# Altium footprint library Fan_Module_PcbLib.PcbLib: 14 footprints
Each footprint in its own frame and in the unit in brackets; x right, y up, seen from the top. Pads: shape width x height; smd on the part's side, far side on the other; paste and mask are expansions set on the pad; w line width, h text height; cw(c..) or ccw(c..) is an arc to the next point about the centre after c.
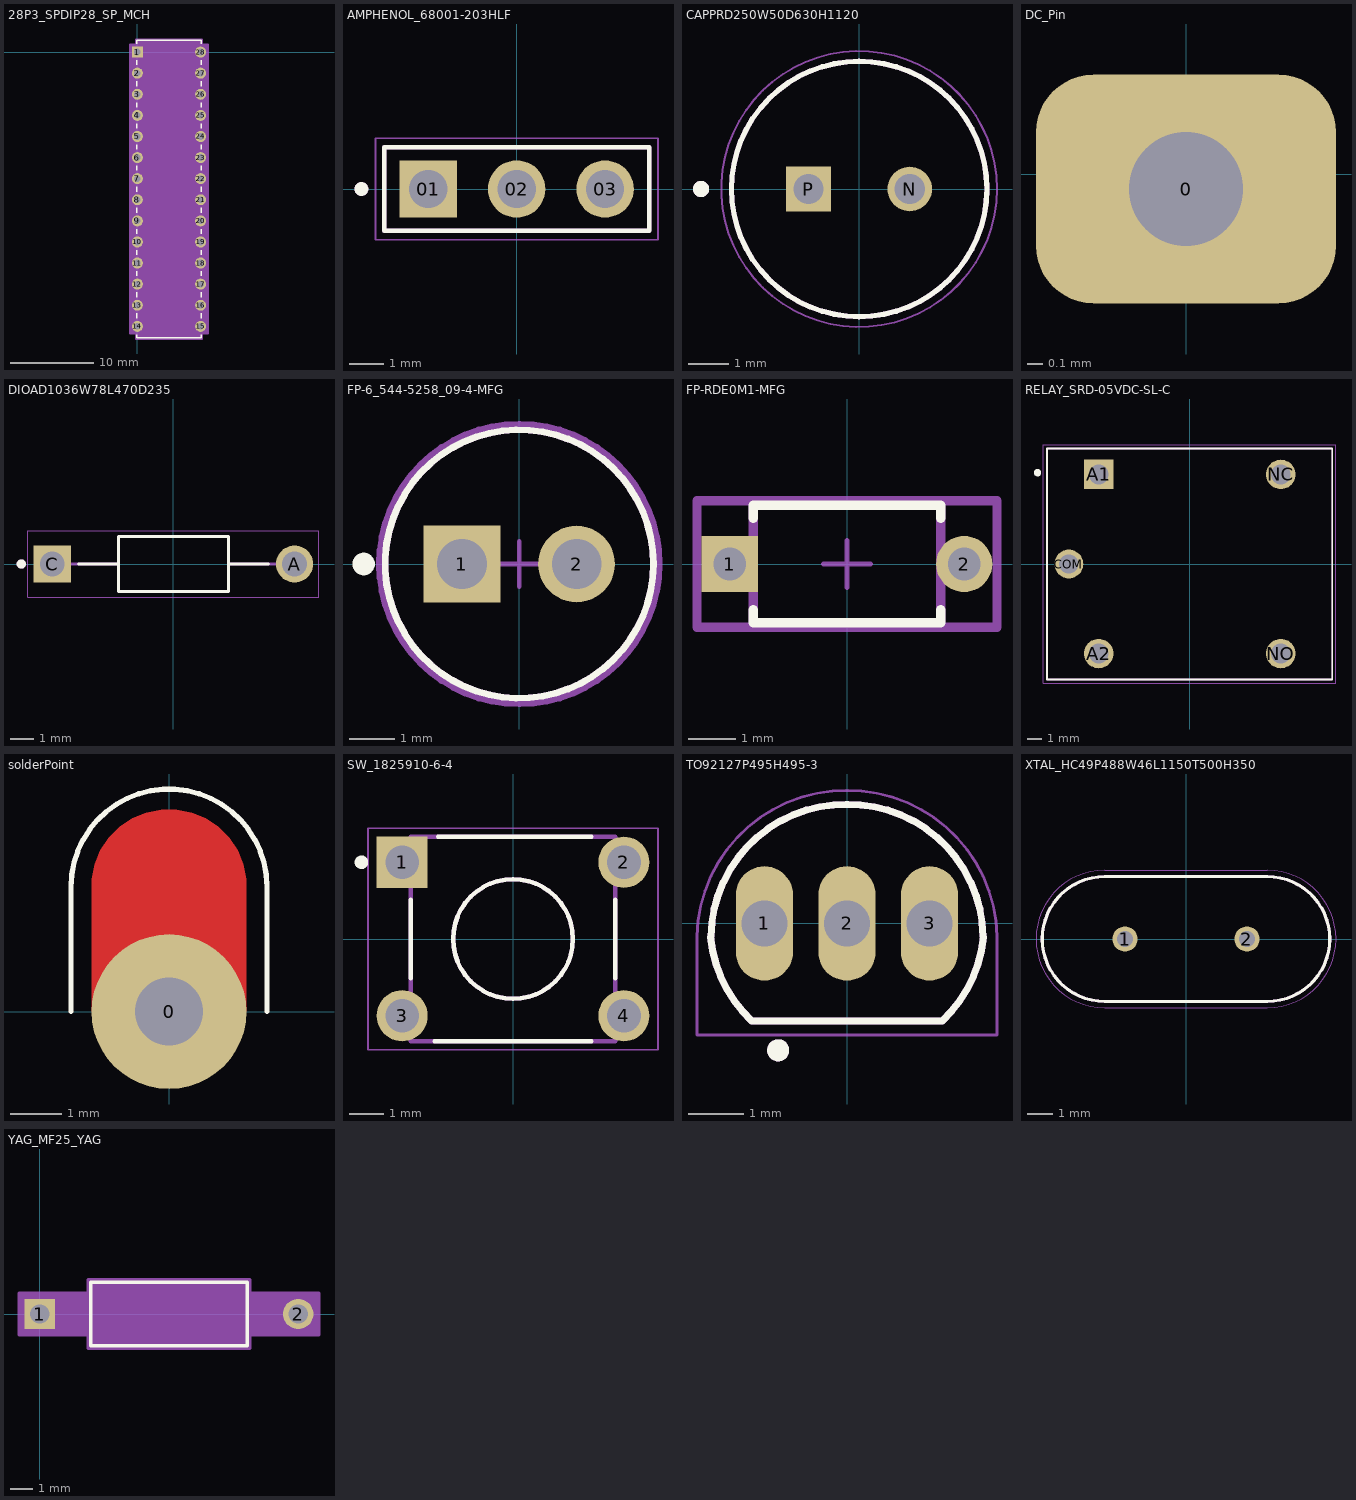
[diagram p0: the footprints below, top view; thin cyan lines are the x and y axes]

## 28P3_SPDIP28_SP_MCH [mil]
pads (28):
  rect 52x52 / inner round 60 / far side rect 52x52 hole 32 paste-99999 mask+0: 1(0,0)
  round 52 / inner round 60 / far side round 52 hole 32 paste-99999 mask+0: 2(0,-100) 3(0,-200) 4(0,-300) 5(0,-400) 6(0,-500) 7(0,-600) 8(0,-700) 9(0,-800) 10(0,-900) 11(0,-1000) 12(0,-1100) 13(0,-1200) 14(0,-1300) 15(300,-1300) 16(300,-1200) 17(300,-1100) 18(300,-1000) 19(300,-900) 20(300,-800) 21(300,-700) 22(300,-600) 23(300,-500) 24(300,-400) 25(300,-300) 26(300,-200) 27(300,-100) 28(300,0)
Top Overlay:
  lines w6: -2.5,-1339.02 -2.5,-1355 302.5,-1355 302.5,-1339.02 ; -2.5,-1260.98 -2.5,-1239.02 ; -2.5,-1160.98 -2.5,-1139.02 ; -2.5,-1060.98 -2.5,-1039.02 ; -2.5,-960.98 -2.5,-939.02 ; -2.5,-860.98 -2.5,-839.02 ; -2.5,-760.98 -2.5,-739.02 ; -2.5,-660.98 -2.5,-639.02 ; -2.5,-560.98 -2.5,-539.02 ; -2.5,-460.98 -2.5,-439.02 ; -2.5,-360.98 -2.5,-339.02 ; -2.5,-260.98 -2.5,-239.02 ; -2.5,-160.98 -2.5,-139.02 ; -2.5,-60.98 -2.5,-39.1 ; -2.5,39.1 -2.5,55 302.5,55 302.5,39.02 ; 302.5,-1260.98 302.5,-1239.02 ; 302.5,-1160.98 302.5,-1139.02 ; 302.5,-1060.98 302.5,-1039.02 ; 302.5,-960.98 302.5,-939.02 ; 302.5,-860.98 302.5,-839.02 ; 302.5,-760.98 302.5,-739.02 ; 302.5,-660.98 302.5,-639.02 ; 302.5,-560.98 302.5,-539.02 ; 302.5,-460.98 302.5,-439.02 ; 302.5,-360.98 302.5,-339.02 ; 302.5,-260.98 302.5,-239.02 ; 302.5,-160.98 302.5,-139.02 ; 302.5,-60.98 302.5,-39.02
Mechanical 13:
  lines w0: 138,50 ccw(c150,50) 162,50
  lines w1: -16,-1316 -16,-1284 2.5,-1284 2.5,-1316 -16,-1316 ; -16,-1216 -16,-1184 2.5,-1184 2.5,-1216 -16,-1216 ; -16,-1116 -16,-1084 2.5,-1084 2.5,-1116 -16,-1116 ; -16,-1016 -16,-984 2.5,-984 2.5,-1016 -16,-1016 ; -16,-916 -16,-884 2.5,-884 2.5,-916 -16,-916 ; -16,-816 -16,-784 2.5,-784 2.5,-816 -16,-816 ; -16,-716 -16,-684 2.5,-684 2.5,-716 -16,-716 ; -16,-616 -16,-584 2.5,-584 2.5,-616 -16,-616 ; -16,-516 -16,-484 2.5,-484 2.5,-516 -16,-516 ; -16,-416 -16,-384 2.5,-384 2.5,-416 -16,-416 ; -16,-316 -16,-284 2.5,-284 2.5,-316 -16,-316 ; -16,-216 -16,-184 2.5,-184 2.5,-216 -16,-216 ; -16,-116 -16,-84 2.5,-84 2.5,-116 -16,-116 ; -16,-16 -16,16 2.5,16 2.5,-16 -16,-16 ; 2.5,-1350 297.5,-1350 297.5,50 2.5,50 2.5,-1350 ; 297.5,-1316 297.5,-1284 316,-1284 316,-1316 297.5,-1316 ; 297.5,-1216 297.5,-1184 316,-1184 316,-1216 297.5,-1216 ; 297.5,-1116 297.5,-1084 316,-1084 316,-1116 297.5,-1116 ; 297.5,-1016 297.5,-984 316,-984 316,-1016 297.5,-1016 ; 297.5,-916 297.5,-884 316,-884 316,-916 297.5,-916 ; 297.5,-816 297.5,-784 316,-784 316,-816 297.5,-816 ; 297.5,-716 297.5,-684 316,-684 316,-716 297.5,-716 ; 297.5,-616 297.5,-584 316,-584 316,-616 297.5,-616 ; 297.5,-516 297.5,-484 316,-484 316,-516 297.5,-516 ; 297.5,-416 297.5,-384 316,-384 316,-416 297.5,-416 ; 297.5,-316 297.5,-284 316,-284 316,-316 297.5,-316 ; 297.5,-216 297.5,-184 316,-184 316,-216 297.5,-216 ; 297.5,-116 297.5,-84 316,-84 316,-116 297.5,-116 ; 297.5,-16 297.5,16 316,16 316,-16 297.5,-16
  text "*" at 0,-25 h50
Mechanical 15:
  region: 307.5,-1336 336,-1336 336,36 307.5,36 307.5,60 -7.5,60 -7.5,36 -36,36 -36,-1336 -7.5,-1336 -7.5,-1360 307.5,-1360
  lines w6: -36,-1336 -36,36 -7.5,36 -7.5,60 307.5,60 307.5,36 336,36 336,-1336 307.5,-1336 307.5,-1360 -7.5,-1360 -7.5,-1336 -36,-1336
3D body "28P3_SPDIP28_SP_MCH.step": height 205.12, standoff -100, extent -5,-1350 314.49,50

## AMPHENOL_68001-203HLF [mm]
height 8.58
pads (3):
  rect 1.65x1.65 / inner round 1.65 / far side rect 1.65x1.65 hole 1.1: 01(-2.54,0)
  round 1.65 hole 1.1: 02(0,0) 03(2.54,0)
Top Overlay:
  circle w0.2: c-4.46,0 r0.1
  lines w0.127: -3.81,-1.205 3.81,-1.205 3.81,1.205 -3.81,1.205 -3.81,-1.205
Mechanical 13:
  circle w0.2: c-4.46,0 r0.1
  lines w0.127: -3.81,-1.205 3.81,-1.205 3.81,1.205 -3.81,1.205 -3.81,-1.205
Mechanical 15:
  lines w0.05: -4.06,-1.455 4.06,-1.455 4.06,1.455 -4.06,1.455 -4.06,-1.455
3D body "step_temp.STEP": height 8.38, standoff -3.05, extent -3.81,-1.205 3.81,1.205

## CAPPRD250W50D630H1120 [mm]
pads (2):
  round 1.1 hole 0.75: N(1.25,0)
  rect 1.1x1.1 hole 0.75: P(-1.25,0)
Top Overlay:
  circle w0.127: c0,0 r3.15
  circle w0.2: c-3.9,0 r0.1
Mechanical 13:
  circle w0.127: c0,0 r3.15
  circle w0.2: c-3.9,0 r0.1
Mechanical 15:
  circle w0.05: c0,0 r3.4
3D body "step_temp.STEP": height 11.2, standoff -17, extent -3.15,-3.149 3.15,3.149

## DC_Pin [mil]
pads (1):
  rrect50% 78.74x60 hole 30: 0(0,-3.94)

## DIOAD1036W78L470D235 [mm]
height 2.7
pads (2):
  round 1.59 hole 1.06: A(5.18,0)
  rect 1.59x1.59 / inner round 1.59 / far side rect 1.59x1.59 hole 1.06: C(-5.18,0)
Top Overlay:
  circle w0.2: c-6.5,0 r0.1
  lines w0.127: -4.065,0 -2.35,0 ; 4.065,0 2.35,0 ; -2.35,0 -2.35,1.175 2.35,1.175 2.35,0 ; -2.35,0 -2.35,-1.175 2.35,-1.175 2.35,0
Mechanical 13:
  circle w0.2: c-6.5,0 r0.1
  lines w0.127: -5.18,0 -2.35,0 ; 5.18,0 2.35,0 ; -2.35,0 -2.35,1.175 2.35,1.175 2.35,0 ; -2.35,0 -2.35,-1.175 2.35,-1.175 2.35,0
Mechanical 15:
  lines w0.05: -6.225,-1.425 -6.225,1.425 6.225,1.425 6.225,-1.425 -6.225,-1.425
3D body "step_temp.STEP": height 2.8, standoff -15.3, extent -5.65,-1.4 5.65,1.4

## FP-6_544-5258_09-4-MFG [mm]
pads (2):
  rect 1.7x1.7 hole 1.1 paste-2539.97 mask+0: 1(-1.27,0)
  round 1.7 hole 1.1 paste-2539.97 mask+0: 2(1.27,0)
Top Overlay:
  circle w0.25: c-3.45,0 r0.125
  circle w0.15: c0,0 r2.975
Top 3D Body:
  circle w0.15: c0,0 r2.975
Top Courtyard:
  lines w0.2: -3.075,0 ccw(c0,0) 3.075,0 ccw(c0,0) -3.075,0
Top Assembly:
  text ".Designator" at 0,0.188 h1
Top Component Center:
  lines w0.1: -0.5,0 0.5,0 ; 0,-0.5 0,0.5
3D body "Diode_Vishay_Semiconductor_TSFF5210_eec.STEP": height 0.25, standoff 0, extent -3.075,-3.075 3.075,3.075

## FP-RDE0M1-MFG [mm]
pads (2):
  rect 1.2x1.2 hole 0.7 paste-2539.97 mask+0: 1(-2.5,0)
  round 1.2 hole 0.7 paste-2539.97 mask+0: 2(2.5,0)
Top Overlay:
  lines w0.2: -2,-0.975 -2,-1.25 2,-1.25 2,-0.975 ; -2,0.975 -2,1.25 2,1.25 2,0.975
Top 3D Body:
  lines w0.2: -2,-1.25 2,-1.25 2,1.25 -2,1.25 -2,-1.25
Top Courtyard:
  lines w0.2: -3.2,-1.35 3.2,-1.35 3.2,1.35 -3.2,1.35 -3.2,-1.35
Top Assembly:
  lines w0.2: -3.2,-1.35 3.2,-1.35 3.2,1.35 -3.2,1.35 -3.2,-1.35
  text ".Designator" at 0,0.188 h1
Top Component Center:
  lines w0.1: -0.5,0 0.5,0 ; 0,-0.5 0,0.5
3D body "Cap_Murata_RDE5C1H821J0M1H03A_eec.STEP": height 0.25, standoff 0, extent -3.2,-1.35 3.2,1.35

## PCBComponent_1 [mil]

## RELAY_SRD-05VDC-SL-C [mm]
pads (5):
  rect 1.98x1.98 / inner round 1.98 / far side rect 1.98x1.98 hole 1.32: A1(-6.1,6)
  round 1.98 hole 1.32: A2(-6.1,-6) NC(6.1,6) NO(6.1,-6)
  round 1.935 hole 1.29: COM(-8.1,0)
Top Overlay:
  circle w0.3: c-10.2,6.119 r0.1
  lines w0.127: -9.55,-7.75 9.55,-7.75 9.55,7.75 -9.55,7.75 -9.55,-7.75
Mechanical 13:
  lines w0.127: -9.55,-7.75 9.55,-7.75 9.55,7.75 -9.55,7.75 -9.55,-7.75
Mechanical 15:
  lines w0.05: -9.8,-8 9.8,-8 9.8,8 -9.8,8 -9.8,-8
3D body "step_temp.STEP": height 15.8, standoff -3, extent -9.6,-7.8 9.6,7.8

## solderPoint [mm]
pads (1):
  round 3 hole 1.32 paste-2539.97: 0(0,0)
Top Layer:
  region: -1.5,0 -1.5,2.413 -1.5,2.561 -1.442,2.851 -1.329,3.124 -1.165,3.369 -0.956,3.578 -0.711,3.742 -0.438,3.855 -0.148,3.913 0.148,3.913 0.438,3.855 0.711,3.742 0.956,3.578 1.165,3.369 1.329,3.124 1.442,2.851 1.5,2.561 1.5,2.413 1.5,0
Top Overlay:
  lines w0.1: -1.9,0 -1.9,2.413 cw(c0,2.413) 1.9,2.413 1.9,0

## SW_1825910-6-4 [mm]
pads (4):
  rect 1.498x1.498 / inner round 1.498 / far side rect 1.498x1.498 hole 0.99: 1(-3.25,2.25)
  round 1.498 hole 0.99: 2(3.25,2.25) 3(-3.25,-2.25) 4(3.25,-2.25)
Top Overlay:
  circle w0.2: c-4.445,2.25 r0.1
  circle w0.127: c0,0 r1.755
  lines w0.127: -2.995,-1.15 -2.995,1.15 ; -2.3,-2.995 2.3,-2.995 ; -2.2,2.995 2.3,2.995 ; 3,-1.15 3,1.15
Mechanical 13:
  circle w0.127: c0,0 r1.755
  lines w0.127: -2.995,-2.995 2.995,-2.995 2.995,2.995 -2.995,2.995 -2.995,-2.995
Mechanical 15:
  lines w0.05: -4.25,-3.25 4.25,-3.25 4.25,3.25 -4.25,3.25 -4.25,-3.25
3D body "step_temp.STEP": height 5.01, standoff -3.51, extent -3.898,-2.995 3.9,2.995

## TO92127P495H495-3 [mm]
height 4.95
pads (3):
  oval 1.04x2.08 hole 0.84: 1(-1.5,0) 2(0,0) 3(1.5,0)
Top Overlay:
  circle w0.2: c-1.25,-2.305 r0.1
  lines w0.127: -2.476,-0.242 ccw(c-0.116,-0.036) -1.732,-1.769 ; -2.475,-0.24 cw(c-0.028,-0.282) 0.015,2.165 ; -1.725,-1.775 1.725,-1.775 ; -0.015,2.165 cw(c0.028,-0.282) 2.475,-0.24 ; 1.732,-1.769 ccw(c0.116,-0.036) 2.476,-0.242
Mechanical 13:
  circle w0.2: c-1.25,-2.305 r0.1
  lines w0.127: -2.476,-0.242 ccw(c-0.116,-0.036) -1.732,-1.769 ; -2.475,-0.24 cw(c-0.028,-0.282) 0.015,2.165 ; -1.725,-1.775 1.725,-1.775 ; -0.015,2.165 cw(c0.028,-0.282) 2.475,-0.24 ; 1.732,-1.769 ccw(c0.116,-0.036) 2.476,-0.242
Mechanical 15:
  lines w0.05: -2.725,-0.255 -2.725,-2.025 2.725,-2.025 2.725,-0.255 ; -2.725,-0.235 cw(c-0.028,-0.282) 0.02,2.415 ; -0.02,2.415 cw(c0.028,-0.282) 2.725,-0.235
3D body "step_temp.STEP": height 20.44, standoff 0, extent -2.28,-1.524 2.28,2.308

## XTAL_HC49P488W46L1150T500H350 [mm]
pads (2):
  round 1.007 hole 0.657: 1(-2.44,0) 2(2.44,0)
Top Overlay:
  lines w0.127: -5.75,0 ccw(c-3.25,0) -3.25,-2.5 3.25,-2.5 ccw(c3.25,0) 5.75,0 ccw(c3.25,0) 3.25,2.5 -3.25,2.5 ccw(c-3.25,0) -5.75,0
Mechanical 13:
  lines w0.127: -5.75,0 ccw(c-3.25,0) -3.25,-2.5 3.25,-2.5 ccw(c3.25,0) 5.75,0 ccw(c3.25,0) 3.25,2.5 -3.25,2.5 ccw(c-3.25,0) -5.75,0
Mechanical 15:
  lines w0.05: -6,0 ccw(c-3.25,0) -3.25,-2.75 3.25,-2.75 ccw(c3.25,0) 6,0 ccw(c3.25,0) 3.25,2.75 -3.25,2.75 ccw(c-3.25,0) -6,0
3D body "step_temp.STEP": height 3.25, standoff -5.75, extent -5.75,-2.5 5.75,2.5

## YAG_MF25_YAG [mil]
pads (2):
  rect 54x54 / inner round 60 / far side rect 54x54 hole 34 paste-99999 mask+0: 1(0,0)
  round 54 / inner round 60 / far side round 54 hole 34 paste-99999 mask+0: 2(460,0)
Top Overlay:
  lines w6: 91,-56.5 369,-56.5 369,56.5 91,56.5 91,-56.5
Mechanical 13:
  lines w1: 0,0 96,0 ; 364,0 460,0 ; 96,-51.5 364,-51.5 364,51.5 96,51.5 96,-51.5
Mechanical 15:
  region: 86,-37 -37,-37 -37,37 86,37 86,61.5 374,61.5 374,37 497,37 497,-37 374,-37 374,-61.5 86,-61.5
  lines w6: -37,-37 -37,37 86,37 86,61.5 374,61.5 374,37 497,37 497,-37 374,-37 374,-61.5 86,-61.5 86,-37 -37,-37
3D body "YAG_MF25_YAG.step": height 103, standoff -110, extent -12.01,-51.12 472.01,51.12